# EAGLE library part 560020-0530 (library 560020-0530)
Headers & Wire Housings 2.0 W/B SMT STAu5ckt EMBOSSED TP PKG Source: Datasheet <https://www.molex.com/pdm_docs/sd/5600200530_sd.pdf>
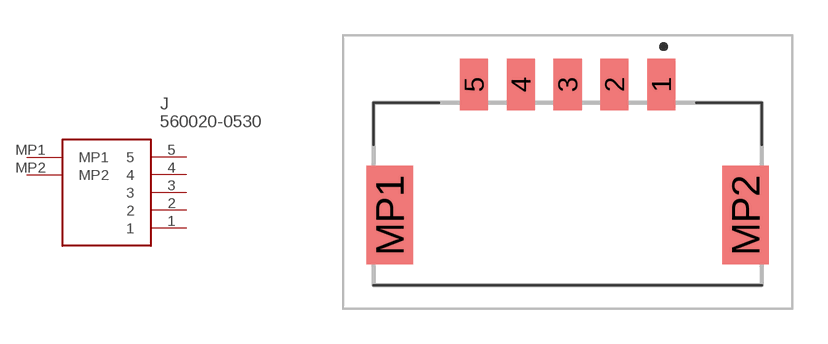
[diagram p0: symbol with the pads of 5600200530; footprint 5600200530]

Designator prefix J

## 560020-0530 (Description: Headers & Wire Housings 2.0 W/B SMT STAu5ckt EMBOSSED TP PKG; Height: 9.3mm; Manufacturer_Name: Molex; Manufacturer_Part_Number: 560020-0530; Mouser_Part_Number: 538-560020-0530; Mouser_Price-Stock: https://www.mouser.co.uk/ProductDetail/Molex/560020-0530?qs=c8NFF48pVsAr8lC1%252BZ%252Bm4w%3D%3D)  [5600200530]
1  1
2  2
3  3
4  4
5  5
MP1  MP1
MP2  MP2

## Footprint 5600200530 (pad centres in mm)
560020-0530-2
smd 1.2 x 2.2: 1 4,4.29; 2 2,4.29; 3 0,4.29; 4 -2,4.29; 5 -4,4.29
smd 2 x 4.2: MP1 -7.6,-1.29; MP2 7.6,-1.29